# Altium footprint library PcbLib1.PcbLib: 2 footprints
Each footprint in its own frame and in the unit in brackets; x right, y up, seen from the top. Pads: shape width x height; smd on the part's side, far side on the other; paste and mask are expansions set on the pad; w line width, h text height; cw(c..) or ccw(c..) is an arc to the next point about the centre after c.
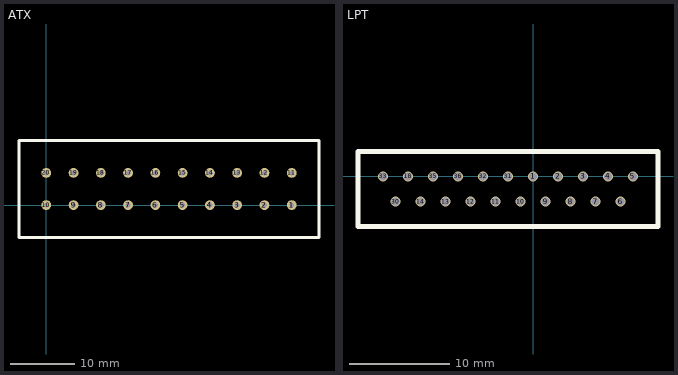
[diagram p0: the footprints below, top view; thin cyan lines are the x and y axes]

## ATX [mil]
pads (20):
  round 60 hole 30: 1(1496.06,0) 2(1329.83,0) 3(1163.6,0) 4(997.37,0) 5(831.14,0) 6(664.91,0) 7(498.69,0) 8(332.46,0) 9(166.23,0) 10(0,0) 11(1496.06,196.85) 12(1329.83,196.85) 13(1163.6,196.85) 14(997.37,196.85) 15(831.14,196.85) 16(664.91,196.85) 17(498.69,196.85) 18(332.46,196.85) 19(166.23,196.85) 20(0,196.85)
Top Overlay:
  lines w19.68: -166.23,-196.85 1662.28,-196.85 1662.28,393.7 -166.23,393.7 -166.23,-196.85

## LPT [mm]
pads (21):
  round 1 on Top hole 0.762: 1(0,0) 2(2.5,0) 3(5,0) 4(7.5,0) 5(10,0) 6(8.75,-2.5) 7(6.25,-2.5) 8(3.75,-2.5) 9(1.25,-2.5) 10(-1.25,-2.5) 11(-3.75,-2.5) 12(-6.25,-2.5) 13(-8.75,-2.5) 14(-11.25,-2.5) 18(-12.5,0) 30(-13.75,-2.5) 31(-2.5,0) 32(-5,0) 33(-15,0) 35(-10,0) 36(-7.5,0)
Top Overlay:
  lines w0.5: -17.5,-5 -17.5,2.5 12.5,2.5 12.5,-5 -17.5,-5